# Altium schematic symbol library ST4SI3M004600HFW.SchLib: 1 symbol
Pins are listed as number, name and electrical type; pins without a type are passive.

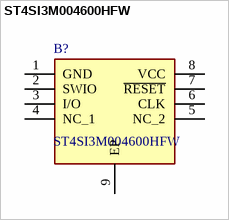
[diagram p0: symbol ST4SI3M004600HFW]

## ST4SI3M004600HFW
designator B?
GSMA eSIM for IoT system on chip solution for IoT environment; Manufacturer_Name: STMicroelectronics; Geometry.Height: 1mm; Manufacturer_Part_Number: ST4SI3M004600HFW; Mouser Part Number: *; Mouser Price/Stock: *; Arrow Part Number: ST4SI3M004600HFW; Arrow Price/Stock: https://www.arrow.com/en/products/st4si3m004600hfw/stmicroelectronics.html?utm_currency=USD&region=nac; Datasheet Link: https://estore.st.com/en/st4si3m004600hfw-cpn.html
footprint SON127P600X500X100-9N
pins: 1 GND, 2 SWIO, 3 I/O, 4 NC_1, 5 NC_2, 6 CLK, 7 ~{RESET}, 8 VCC, 9 EP